# Altium footprint library TO254P465X1024X2050-3P.PcbLib: 1 footprints
Each footprint in its own frame and in the unit in brackets; x right, y up, seen from the top. Pads: shape width x height; smd on the part's side, far side on the other; paste and mask are expansions set on the pad; w line width, h text height; cw(c..) or ccw(c..) is an arc to the next point about the centre after c.
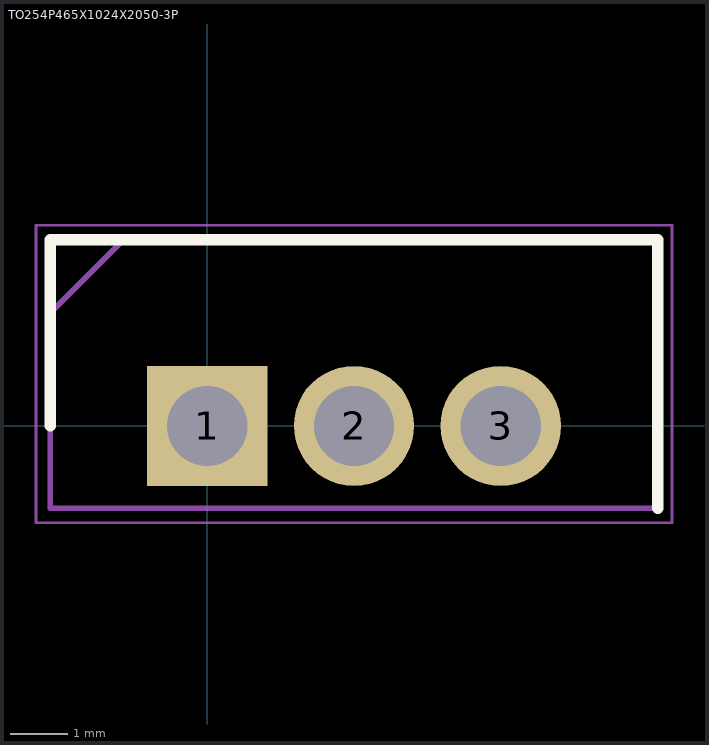
[diagram p0: the footprint, top view; thin cyan lines are the x and y axes]

## TO254P465X1024X2050-3P [mm]
pads (3):
  rect 2.085x2.085 / inner round 2.085 / far side rect 2.085x2.085 hole 1.39: 1(0,0)
  round 2.085 hole 1.39: 2(2.54,0) 3(5.08,0)
Top Overlay:
  lines w0.2: -2.72,0 -2.72,3.225 7.8,3.225 7.8,-1.425
Mechanical 15:
  lines w0.1: -2.72,1.955 -1.45,3.225 ; -2.72,-1.425 7.8,-1.425 7.8,3.225 -2.72,3.225 -2.72,-1.425
Mechanical 20:
  lines w0.05: -2.97,-1.675 8.05,-1.675 8.05,3.475 -2.97,3.475 -2.97,-1.675